# EAGLE library part IS31AP2005-SLS2-TR (library IS31AP2005-SLS2-TR)
2.95W Mono Filter-less Class-D Audio Power Amplifier, MSOP-8 (3.0mm x 5.0mm), T&R Source: Datasheet <https://www.lumissil.com/assets/pdf/core/IS31AP2005_DS.pdf>
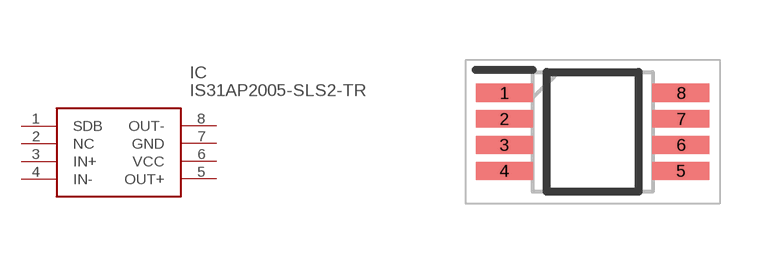
[diagram p0: symbol with the pads of SOP65P490X110-8N; footprint SOP65P490X110-8N]

Designator prefix IC

## IS31AP2005-SLS2-TR (Description: 2.95W Mono Filter-less Class-D Audio Power Amplifier, MSOP-8 (3.0mm x 5.0mm), T&R; Height: 1.1mm; Manufacturer_Name: Lumissil Microsystems; Manufacturer_Part_Number: IS31AP2005-SLS2-TR)  [SOP65P490X110-8N]
1  SDB
2  NC  nc
3  IN+
4  IN-
5  OUT+
6  VCC
7  GND
8  OUT-

## Footprint SOP65P490X110-8N (pad centres in mm)
MSOP-8_2025
smd 1.425 x 0.45: 1 -2.212,0.975; 2 -2.212,0.325; 3 -2.212,-0.325; 4 -2.212,-0.975; 5 2.212,-0.975; 6 2.212,-0.325; 7 2.212,0.325; 8 2.212,0.975